# Altium schematic symbol library DS1822.Schlib: 1 symbol
Pins are listed as number, name and electrical type; pins without a type are passive.

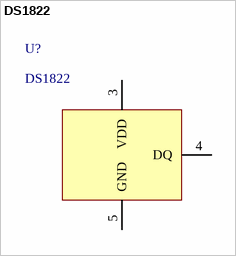
[diagram p0: symbol DS1822]

## DS1822
designator U?
pins: 3 VDD, 4 DQ, 5 GND